# Altium footprint library OpAmp_PSU_01.PcbLib: 9 footprints
Each footprint in its own frame and in the unit in brackets; x right, y up, seen from the top. Pads: shape width x height; smd on the part's side, far side on the other; paste and mask are expansions set on the pad; w line width, h text height; cw(c..) or ccw(c..) is an arc to the next point about the centre after c.
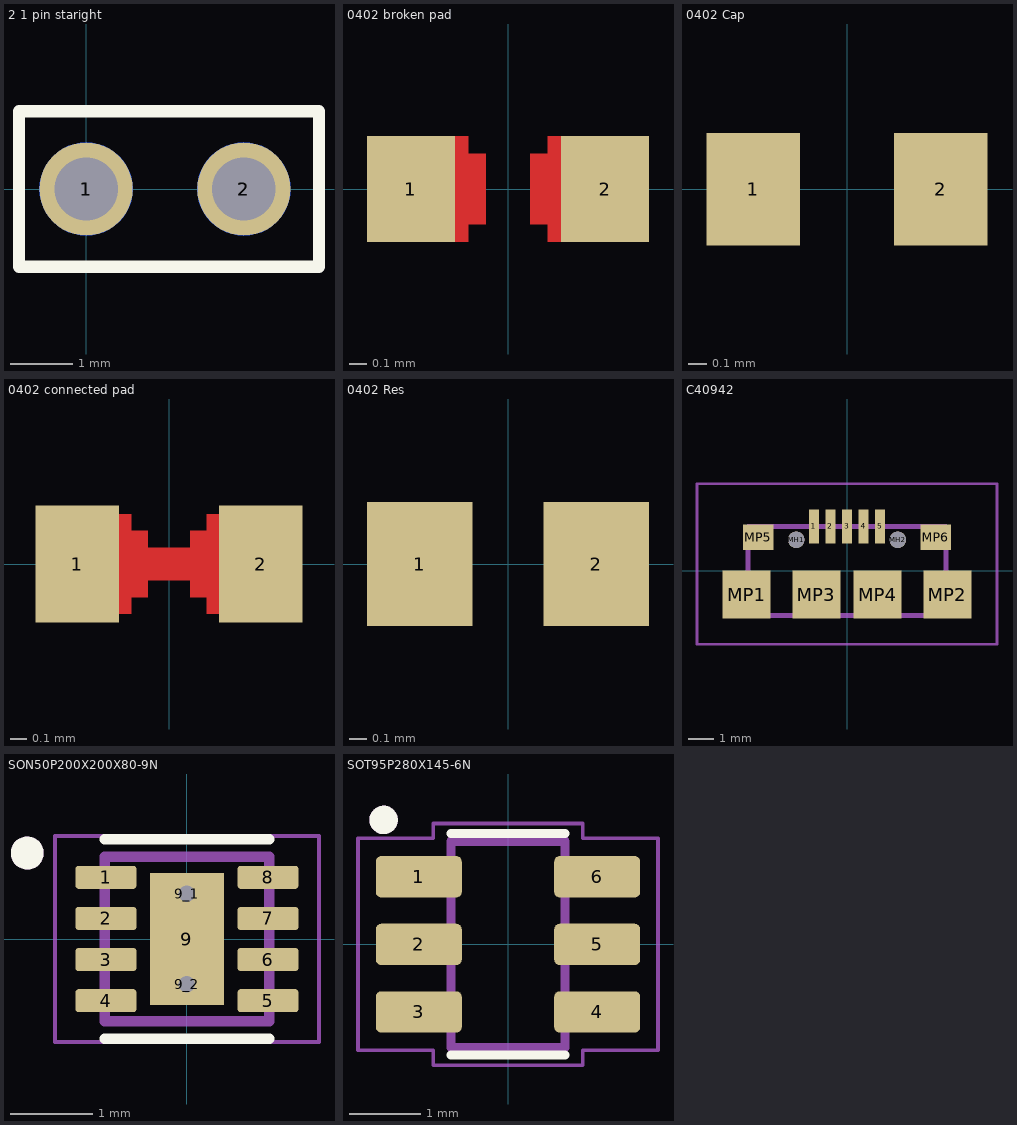
[diagram p0: the footprints below, top view; thin cyan lines are the x and y axes]

## 2 1 pin staright [mm]
pads (4):
  round 1.5 smd mask+0.05: 1(0,0) 2(2.54,0)
  round 1.5 smd far side mask+0.05: 1(0,0) 2(2.54,0)
via 2.54,0 diameter 1.02 hole 1.02
via 0,0 diameter 1.02 hole 1.02
Top Overlay:
  lines w0.2: -1.08,-1.25 3.75,-1.25 3.75,1.25 -1.08,1.25 -1.08,-1.25

## 0402 broken pad [mm]
pads (2):
  rect 0.5x0.6 smd: 1(-0.55,0) 2(0.55,0)
Top Layer:
  rectangle: -0.275,-0.2 -0.125,0.2
  rectangle: 0.125,-0.2 0.275,0.2
  rectangle: -0.375,-0.3 -0.225,0.3
  rectangle: 0.225,-0.3 0.375,0.3
Top Solder:
  rectangle: 0.109,-0.227 0.229,0.216
  rectangle: -0.227,-0.222 -0.107,0.221

## 0402 Cap [mm]
pads (2):
  rect 0.5x0.6 smd: 1(-0.5,0) 2(0.5,0)
3D body "CAPC0402 v2.step": height 0.5, standoff 0, extent -0.5,-0.25 0.5,0.25

## 0402 connected pad [mm]
pads (2):
  rect 0.5x0.7 smd: 1(-0.55,0) 2(0.55,0)
Top Layer:
  rectangle: -0.275,-0.2 -0.125,0.2
  rectangle: 0.125,-0.2 0.275,0.2
  rectangle: -0.375,-0.3 -0.225,0.3
  rectangle: 0.225,-0.3 0.375,0.3
  lines w0.2: -0.55,0 0.55,0

## 0402 Res [mm]
pads (2):
  rect 0.6x0.7 smd: 1(-0.5,0) 2(0.5,0)
3D body "RES0402.stp": height 0.3, standoff 0, extent -0.5,-0.25 0.5,0.25

## C40942 [mm]
pads (13):
  rect 0.4x1.35 smd: 1(-1.3,1.75) 2(-0.65,1.75) 3(0,1.75) 4(0.65,1.75) 5(1.3,1.75)
  round 0.65 hole 0.65 unplated: MH1(-2,1.225) MH2(2,1.225)
  rect 1.9x1.9 smd: MP1(-3.95,-0.925) MP2(3.95,-0.925) MP3(-1.2,-0.925) MP4(1.2,-0.925)
  rect 1.2x1 smd: MP5(-3.5,1.325) MP6(3.5,1.325)
Mechanical 3:
  lines w0.1: -5.9,-2.875 -5.9,3.425 5.9,3.425 5.9,-2.875 -5.9,-2.875
  lines w0.2: -3.9,-1.75 -3.9,1.75 3.9,1.75 3.9,-1.75 -3.9,-1.75
Mechanical 7:
  lines w0.1: -3.9,0.55 -3.9,1.75 -2.1,1.75 ; 1.8,1.75 3.95,1.75 3.9,0.25

## PCBComponent_1 [mm]

## SON50P200X200X80-9N [mm]
pads (11):
  rrect25% 0.74x0.28 smd: 1(-0.985,0.75) 2(-0.985,0.25) 3(-0.985,-0.25) 4(-0.985,-0.75) 5(0.985,-0.75) 6(0.985,-0.25) 7(0.985,0.25) 8(0.985,0.75)
  rect 0.9x1.6 smd paste-2: 9(0,0)
  round 0.4 hole 0.2 mask+0: 9_1(0,0.55) 9_2(0,-0.55)
Top Overlay:
  circle w0.2: c-1.941,1.045 r0.1
  lines w0.127: -1,-1.21 1,-1.21 ; -1,1.21 1,1.21
Mechanical 13:
  circle w0.2: c-1.941,1.045 r0.1
  lines w0.127: -1,-1 1,-1 1,1 -1,1 -1,-1
Mechanical 15:
  lines w0.05: -1.605,-1.25 1.605,-1.25 1.605,1.25 -1.605,1.25 -1.605,-1.25
3D body "step_temp.STEP": height 0.8, standoff 0, extent -1,-1 1,1

## SOT95P280X145-6N [mm]
pads (6):
  rrect25% 1.21x0.58 smd: 1(-1.255,0.95) 2(-1.255,0) 3(-1.255,-0.95) 4(1.255,-0.95) 5(1.255,0) 6(1.255,0.95)
Top Overlay:
  circle w0.2: c-1.75,1.75 r0.1
  lines w0.127: -0.8,-1.56 0.8,-1.56 ; -0.8,1.56 0.8,1.56
Mechanical 13:
  circle w0.2: c-1.75,1.75 r0.1
  lines w0.127: -0.8,-1.45 -0.8,1.45 0.8,1.45 0.8,-1.45 -0.8,-1.45
Mechanical 15:
  lines w0.05: -2.11,-1.49 -2.11,1.49 -1.05,1.49 -1.05,1.7 1.05,1.7 1.05,1.49 2.11,1.49 2.11,-1.49 1.05,-1.49 1.05,-1.7 -1.05,-1.7 -1.05,-1.49 -2.11,-1.49
3D body "step_temp.STEP": height 1.45, standoff 0, extent -1.4,-1.45 1.4,1.45